# Altium footprint library 9775036360.PcbLib: 1 footprints
Each footprint in its own frame and in the unit in brackets; x right, y up, seen from the top. Pads: shape width x height; smd on the part's side, far side on the other; paste and mask are expansions set on the pad; w line width, h text height; cw(c..) or ccw(c..) is an arc to the next point about the centre after c.
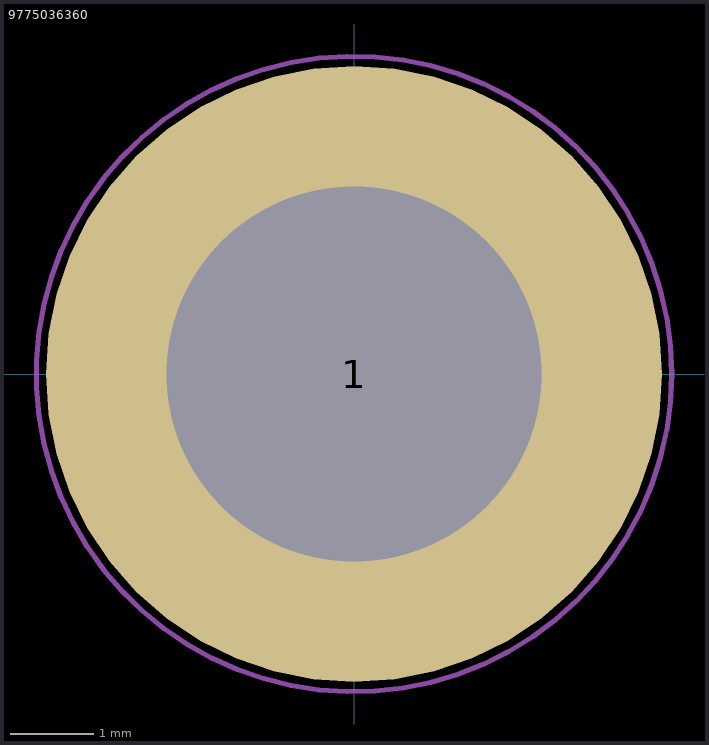
[diagram p0: the footprint, top view; thin cyan lines are the x and y axes]

## 9775036360 [mm]
pads (1):
  round 7.4 hole 4.5 mask+0.05: 1(0,0)
Top Paste:
  region: -3.525,0.889 -2.056,0.889 -1.963,1.079 -1.726,1.428 -1.428,1.726 -1.079,1.963 -0.889,2.056 -0.889,3.525 -1.127,3.465 -1.581,3.282 -2.007,3.04 -2.397,2.744 -2.744,2.397 -3.04,2.007 -3.282,1.581 -3.465,1.127
  region: -0.889,-3.525 -0.889,-2.056 -1.079,-1.963 -1.428,-1.726 -1.726,-1.428 -1.963,-1.079 -2.056,-0.889 -3.525,-0.889 -3.465,-1.127 -3.282,-1.581 -3.04,-2.007 -2.744,-2.397 -2.397,-2.744 -2.007,-3.04 -1.581,-3.282 -1.127,-3.465
  region: 3.525,-0.889 2.056,-0.889 1.963,-1.079 1.726,-1.428 1.428,-1.726 1.079,-1.963 0.889,-2.056 0.889,-3.525 1.127,-3.465 1.581,-3.282 2.007,-3.04 2.397,-2.744 2.744,-2.397 3.04,-2.007 3.282,-1.581 3.465,-1.127
  region: 0.889,3.525 0.889,2.056 1.079,1.963 1.428,1.726 1.726,1.428 1.963,1.079 2.056,0.889 3.525,0.889 3.465,1.127 3.282,1.581 3.04,2.007 2.744,2.397 2.397,2.744 2.007,3.04 1.581,3.282 1.127,3.465
Top Assembly:
  circle w0.05: c0,0 r3.821
Top Courtyard:
  circle w0.05: c0,0 r3.81
3D body "9775036360R_Downloads_STP_9775036360R_rev1.stp": height 1, standoff -3.6, extent -3,-3 3,3